# EAGLE library part TPS54332 (library simpa)
TPS54332 3.5-A, 28-V, 1-MHz, Step-Down DC-DC Converter With Eco-Mode
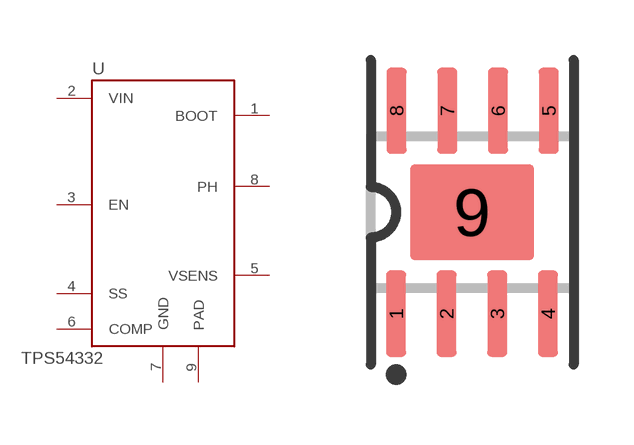
[diagram p5: symbol with the pads of POWER-SOIC8; footprint POWER-SOIC8]

Designator prefix U

## TPS54332  [POWER-SOIC8]
1  BOOT  pas
2  VIN  pas
3  EN  pas
4  SS  pas
5  VSENS  pas
6  COMP  pas
7  GND  pas
8  PH  pas
9  PAD  pas

## Footprint POWER-SOIC8 (pad centres in mm)
DDA PACKAGE Power-PAD SOIC for TPS54332
smd 0.5 x 2.15: 1 -1.905,-2.54; 2 -0.645,-2.54; 3 0.625,-2.54; 4 1.895,-2.54; 5 1.915,2.54; 6 0.645,2.54; 7 -0.625,2.54; 8 -1.895,2.54
smd 3.1 x 2.4: 9 0,0